# EAGLE library part MCP3208 (library mcp3208)
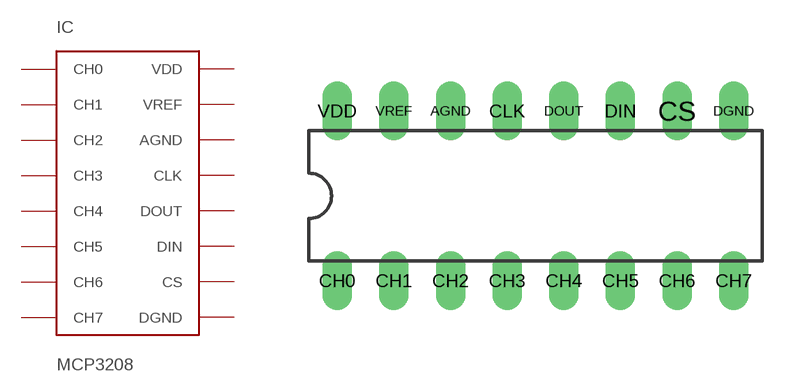
[diagram p0: symbol with the pads of DIL16; footprint DIL16]

Designator prefix IC

## MCP3208 (VALUE: MCP3208)  [DIL16]
AGND  AGND  pwr
CH0  CH0  in
CH1  CH1  in
CH2  CH2  in
CH3  CH3  in
CH4  CH4  in
CH5  CH5  in
CH6  CH6  in
CH7  CH7  in
CLK  CLK  in
CS  CS  in
DGND  DGND  pwr
DIN  DIN  in
DOUT  DOUT  out
VDD  VDD  pwr
VREF  VREF  in

## Footprint DIL16 (pad centres in mm)
Dual In Line Package
drill 0.813 long: AGND -3.81,3.81; CH0 -8.89,-3.81; CH1 -6.35,-3.81; CH2 -3.81,-3.81; CH3 -1.27,-3.81; CH4 1.27,-3.81; CH5 3.81,-3.81; CH6 6.35,-3.81; CH7 8.89,-3.81; CLK -1.27,3.81; CS 6.35,3.81; DGND 8.89,3.81; DIN 3.81,3.81; DOUT 1.27,3.81; VDD -8.89,3.81; VREF -6.35,3.81